# EAGLE library part LEVEL_SHIFTER_TXB0104 (library Scott-ICs)
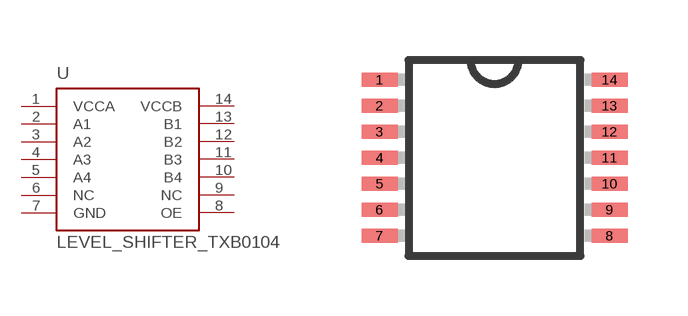
[diagram p3: symbol with the pads of TSSOP-14; footprint TSSOP-14]

Designator prefix -

## LEVEL_SHIFTER_TXB0104  [TSSOP-14]
1  VCCA  pwr
2  A1
3  A2
4  A3
5  A4
6  NC
7  GND  pwr
8  OE
9  NC
10  B4
11  B3
12  B2
13  B1
14  VCCB  pwr

## Footprint TSSOP-14 (pad centres in mm)
14-Lead Thin Shrink Small Outline Package [TSSOP] Source: Analog Devices .. 780914713ADD8704_0.pdf
smd 0.9 x 0.35: 1 -2.875,1.95; 2 -2.875,1.3; 3 -2.875,0.65; 4 -2.875,0; 5 -2.875,-0.65; 6 -2.875,-1.3; 7 -2.875,-1.95; 8 2.875,-1.95; 9 2.875,-1.3; 10 2.875,-0.65; 11 2.875,0; 12 2.875,0.65; 13 2.875,1.3; 14 2.875,1.95